# Altium integrated library onion_dock_altium.IntLib: 8 symbols
Pins are listed as number, name and electrical type; pins without a type are passive.

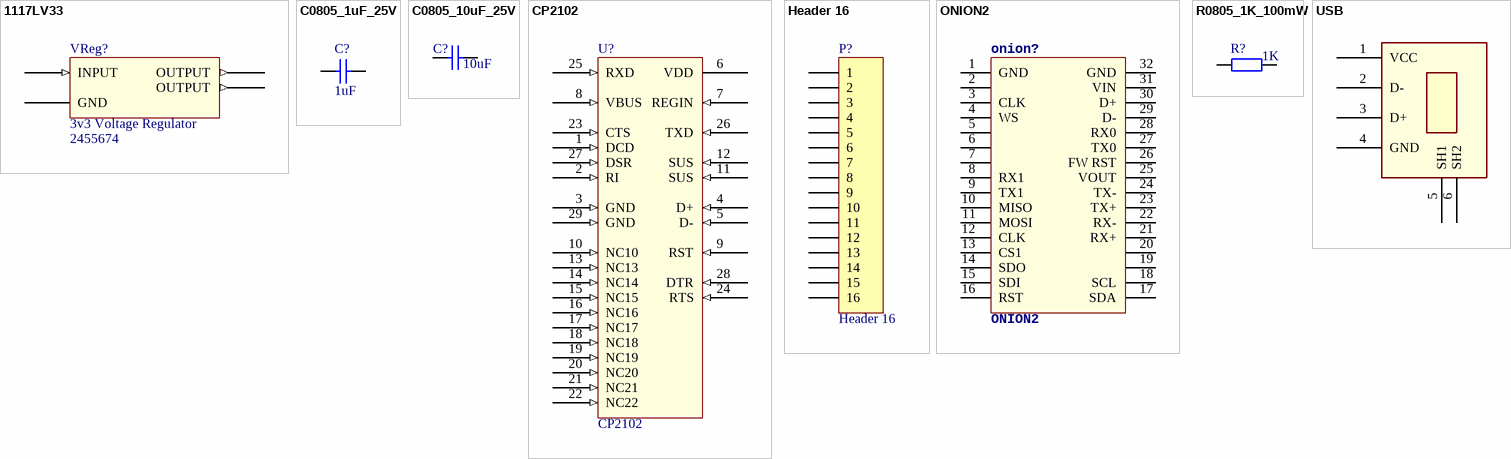
[diagram p0: symbols 1117LV33 to USB]

## 1117LV33
designator VReg?, comment 3v3 Voltage Regulator  Supplier Part Number 1: 2455674
Supplier 1: Farnell
footprint SOT230P700X180-4N (SOT223, 4-Leads, Body 6.50x7.00mm (avg), Pitch 2.30mm, IPC Medium Density)
pins: 1 GND (power) "Ground", 2 OUTPUT (out) "Fault output, active low", 3 INPUT (in) "Logic input", 4 OUTPUT (out) "Fault output, active low"

## C0805_1uF_25V
designator C?  value 1uF  (hidden comment: C0805_1uF_25V)
SMD Multilayer Ceramic Capacitor, 1 µF, ± 10%, X7R, 25 V, 0805 [2012 Metric]; Supplier 1: Farnell; Supplier Part Number 1: 2332737
simulation model CAP (Capacitor)
signal-integrity model Cap
footprint C0805 (Chip Capacitor, Body 2.0x1.3mm, IPC High Density)
pins: 1, 2

## C0805_10uF_25V
designator C?  value 10uF  (hidden comment: C0805_10uF_25V)
SMD Multilayer Ceramic Capacitor, 10 µF, ± 10%, X5R, 25 V, 0805 [2012 Metric]; Supplier 1: Farnell; Supplier Part Number 1: 2491176
simulation model CAP (Capacitor)
signal-integrity model Cap
footprint C0805 (Chip Capacitor, Body 2.0x1.3mm, IPC High Density)
pins: 1, 2

## CP2102
designator U?
Supplier 1: Mouser; Supplier Part Number 1: 727-CY7C6563428LTXCT
footprint QFN50P500X500X100_HS-29N (QFN, 28-Leads, Body 5.00x5.00mm, Pitch 0.50mm, Thermal Pad 4.00x3.13mm, IPC Medium Density)
pins: 1 DCD (in), 2 RI (in), 3 GND (in), 4 D+ (in), 5 D- (in), 6 VDD (oc), 7 REGIN (in), 8 VBUS (in), 9 RST (in), 10 NC10 (in), 11 SUS (in), 12 SUS (in), 13 NC13 (in), 14 NC14 (in), 15 NC15 (in), 16 NC16 (in), 17 NC17 (in), 18 NC18 (in), 19 NC19 (in), 20 NC20 (in), 21 NC21 (in), 22 NC22 (in), 23 CTS (in), 24 RTS (in), 25 RXD (in), 26 TXD (in), 27 DSR (in), 28 DTR (in), 29 GND (in)

## Header 16
designator P?
Header, 16-Pin; LatestRevisionDate: 17-Jul-2002; LatestRevisionNote: Re-released for DXP Platform.; Publisher: Altium Limited
footprint HDR1X16 (Connector; Header; 16 Position)
signal-integrity model Connector
pins: 1, 2, 3, 4, 5, 6, 7, 8, 9, 10, 11, 12, 13, 14, 15, 16

## ONION2
designator onion?
footprint ONION2
pins: 1 GND, 2, 3 CLK, 4 WS, 5, 6, 7, 8 RX1, 9 TX1, 10 MISO, 11 MOSI, 12 CLK, 13 CS1, 14 SDO, 15 SDI, 16 RST, 17 SDA, 18 SCL, 19, 20, 21 RX+, 22 RX-, 23 TX+, 24 TX-, 25 VOUT "3v3", 26 FW RST, 27 TX0, 28 RX0, 29 D-, 30 D+, 31 VIN, 32 GND

## R0805_1K_100mW
designator R?  value 1K  (hidden comment: R0805_1K_100mW)
RES, THICK FILM, 1K, 1%,100mW, 0805; Power: 0.1W; Supplier 1: Farnell; Supplier Part Number 1: 9332383
simulation model RESISTOR (Resistor)
signal-integrity model Res
footprint R0805 (Chip Resistor, 2-Leads, Body 2.00x1.20mm, IPC Medium Density)
pins: 1, 2

## USB
designator USB?  (value not drawn)
Mouser: http://www.mouser.de/ProductDetail/TE-Connectivity-AMP/292303-1/?qs=sGAEpiMZZMulM8LPOQ%252byk2ChD%2fcRWFzQGYjPa0hd1DM%3d
footprint MicroUSB (Connector; USB Mini-B, Sinking Type, SM; 5 Position; Right Angle)
pins: 1 VCC (power), 2 D-, 3 D+, 4 GND (power), 5 SH1, 6 SH2